# Altium footprint library MCUs.PcbLib: 25 footprints (part 2 of 2)
Each footprint in its own frame and in the unit in brackets; x right, y up, seen from the top. Pads: shape width x height; smd on the part's side, far side on the other; paste and mask are expansions set on the pad; w line width, h text height; cw(c..) or ccw(c..) is an arc to the next point about the centre after c.
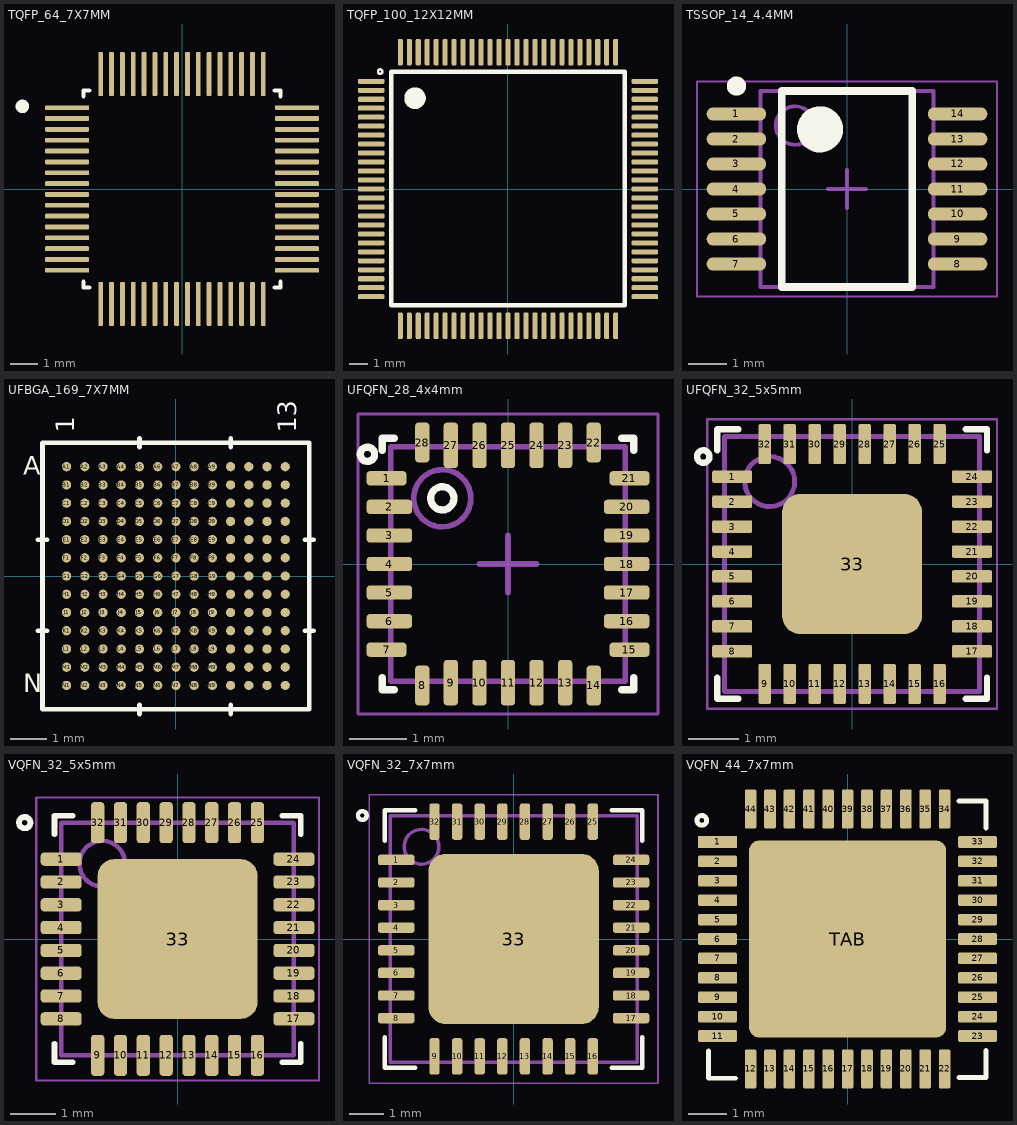
[diagram p1: the footprints below, top view; thin cyan lines are the x and y axes]

## TQFP_64_7X7MM [mil] "/20220212/J-E.Pachon"
pads (64):
  rrect50% 64x7 smd: 1(-167.39,118.11) 2(-167.39,102.36) 3(-167.39,86.61) 4(-167.39,70.87) 5(-167.39,55.12) 6(-167.39,39.37) 7(-167.39,23.62) 8(-167.39,7.87) 9(-167.39,-7.87) 10(-167.39,-23.62) 11(-167.39,-39.37) 12(-167.39,-55.12) 13(-167.39,-70.87) 14(-167.39,-86.61) 15(-167.39,-102.36) 16(-167.39,-118.11) 33(166.61,-118.11) 34(166.61,-102.36) 35(166.61,-86.61) 36(166.61,-70.87) 37(166.61,-55.12) 38(166.61,-39.37) 39(166.61,-23.62) 40(166.61,-7.87) 41(166.61,7.87) 42(166.61,23.62) 43(166.61,39.37) 44(166.61,55.12) 45(166.61,70.87) 46(166.61,86.61) 47(166.61,102.36) 48(166.61,118.11)
  rrect50% 7x64 smd: 17(-118.5,-167) 18(-102.76,-167) 19(-87.01,-167) 20(-71.26,-167) 21(-55.51,-167) 22(-39.76,-167) 23(-24.02,-167) 24(-8.27,-167) 25(7.48,-167) 26(23.23,-167) 27(38.98,-167) 28(54.72,-167) 29(70.47,-167) 30(86.22,-167) 31(101.97,-167) 32(117.72,-167) 49(117.72,167) 50(101.97,167) 51(86.22,167) 52(70.47,167) 53(54.72,167) 54(38.98,167) 55(23.23,167) 56(7.48,167) 57(-8.27,167) 58(-24.02,167) 59(-39.76,167) 60(-55.51,167) 61(-71.26,167) 62(-87.01,167) 63(-102.76,167) 64(-118.5,167)
Top Overlay:
  circle w9.84: c-232.28,120.08 r4.92
  lines w6: -143.39,-134.71 -143.39,-143 -135.1,-143 ; -143.39,134.71 -143.39,143 -135.1,143 ; 134.32,-143 142.61,-143 142.61,-134.71 ; 134.32,143 142.61,143 142.61,134.71
3D body "64TQFP_W7500P_WIZ.step": height 63.11, standoff 0, extent -177.4,-177.01 176.61,177.01

## TQFP_100_12X12MM [mil] "/20220523/F-A.Ospina"
pads (100):
  rrect50% 58x11 smd paste+0: 1(-300,236.22) 2(-300,216.54) 3(-300,196.85) 4(-300,177.17) 5(-300,157.48) 6(-300,137.8) 7(-300,118.11) 8(-300,98.43) 9(-300,78.74) 10(-300,59.06) 11(-300,39.37) 12(-300,19.69) 13(-300,0) 14(-300,-19.68) 15(-300,-39.37) 16(-300,-59.06) 17(-300,-78.74) 18(-300,-98.43) 19(-300,-118.11) 20(-300,-137.8) 21(-300,-157.48) 22(-300,-177.17) 23(-300,-196.85) 24(-300,-216.54) 25(-300,-236.22) 51(300,-236.22) 52(300,-216.54) 53(300,-196.85) 54(300,-177.17) 55(300,-157.48) 56(300,-137.8) 57(300,-118.11) 58(300,-98.43) 59(300,-78.74) 60(300,-59.06) 61(300,-39.37) 62(300,-19.68) 63(300,0) 64(300,19.68) 65(300,39.37) 66(300,59.06) 67(300,78.74) 68(300,98.43) 69(300,118.11) 70(300,137.8) 71(300,157.48) 72(300,177.17) 73(300,196.85) 74(300,216.54) 75(300,236.22)
  rrect50% 11x58 smd paste+0: 26(-236.22,-300) 27(-216.54,-300) 28(-196.85,-300) 29(-177.17,-300) 30(-157.48,-300) 31(-137.8,-300) 32(-118.11,-300) 33(-98.43,-300) 34(-78.74,-300) 35(-59.05,-300) 36(-39.37,-300) 37(-19.68,-300) 38(0,-300) 39(19.69,-300) 40(39.37,-300) 41(59.06,-300) 42(78.74,-300) 43(98.43,-300) 44(118.11,-300) 45(137.8,-300) 46(157.48,-300) 47(177.17,-300) 48(196.85,-300) 49(216.54,-300) 50(236.22,-300) 76(236.22,300) 77(216.54,300) 78(196.85,300) 79(177.17,300) 80(157.48,300) 81(137.8,300) 82(118.11,300) 83(98.43,300) 84(78.74,300) 85(59.06,300) 86(39.37,300) 87(19.69,300) 88(0,300) 89(-19.68,300) 90(-39.37,300) 91(-59.05,300) 92(-78.74,300) 93(-98.43,300) 94(-118.11,300) 95(-137.8,300) 96(-157.48,300) 97(-177.17,300) 98(-196.85,300) 99(-216.54,300) 100(-236.22,300)
Top Overlay:
  circle w23.62: c-203.94,199.21 r11.81
  circle w5: c-280.31,257.48 r4.92
  lines w10: -255.91,-255.12 255.91,-255.12 255.91,256.69 -255.91,256.69 -255.91,-255.12
3D body "TQFP100_14x14MC_MCH.step": height 47.09, standoff 0, extent -315,-315 315,315

## TSSOP_14_4.4MM [mm] "/ 20210511 / J-E.Pachon"
height 1.2
pads (14):
  oval 1.55x0.35 smd: 1(-2.875,1.95) 2(-2.875,1.3) 3(-2.875,0.65) 4(-2.875,0) 5(-2.875,-0.65) 6(-2.875,-1.3) 7(-2.875,-1.95) 8(2.875,-1.95) 9(2.875,-1.3) 10(2.875,-0.65) 11(2.875,0) 12(2.875,0.65) 13(2.875,1.3) 14(2.875,1.95)
Top Overlay:
  circle w0.25: c-2.875,2.675 r0.125
  circle w0.6: c-0.7,1.55 r0.3
  lines w0.2: -1.7,-2.55 -1.7,2.55 1.7,2.55 1.7,-2.55 -1.7,-2.55
Mechanical 1:
  circle w0.1: c-1.35,1.65 r0.5
  lines w0.1: -2.25,-2.55 -2.25,2.55 2.25,2.55 2.25,-2.55 -2.25,-2.55
Mechanical 15:
  lines w0.05: -3.9,-2.8 -3.9,2.8 3.9,2.8 3.9,-2.8 -3.9,-2.8
  lines w0.1: -0.5,0 0.5,0 ; 0,-0.5 0,0.5
3D body: height 1.2, standoff 0.05, extent -2.25,-2.55 2.25,2.55

## UFBGA_169_7X7MM [mil] "20220803 / E.Naranjo"
pads (169):
  round 10 smd paste+0 mask+0: A1(-118.11,118.11) A2(-98.43,118.11) A3(-78.74,118.11) A4(-59.06,118.11) A5(-39.37,118.11) A6(-19.68,118.11) A7(0,118.11) A8(19.68,118.11) A9(39.37,118.11) A10(59.06,118.11) A11(78.74,118.11) A12(98.43,118.11) A13(118.11,118.11) B1(-118.11,98.43) B2(-98.43,98.43) B3(-78.74,98.43) B4(-59.06,98.43) B5(-39.37,98.43) B6(-19.68,98.43) B7(0,98.43) B8(19.68,98.43) B9(39.37,98.43) B10(59.06,98.43) B11(78.74,98.43) B12(98.43,98.43) B13(118.11,98.43) C1(-118.11,78.74) C2(-98.43,78.74) C3(-78.74,78.74) C4(-59.06,78.74) C5(-39.37,78.74) C6(-19.68,78.74) C7(0,78.74) C8(19.68,78.74) C9(39.37,78.74) C10(59.06,78.74) C11(78.74,78.74) C12(98.43,78.74) C13(118.11,78.74) D1(-118.11,59.06) D2(-98.43,59.06) D3(-78.74,59.06) D4(-59.06,59.06) D5(-39.37,59.06) D6(-19.68,59.06) D7(0,59.06) D8(19.68,59.06) D9(39.37,59.06) D10(59.06,59.06) D11(78.74,59.06) D12(98.43,59.06) D13(118.11,59.06) E1(-118.11,39.37) E2(-98.43,39.37) E3(-78.74,39.37) E4(-59.06,39.37) E5(-39.37,39.37) E6(-19.68,39.37) E7(0,39.37) E8(19.68,39.37) E9(39.37,39.37) E10(59.06,39.37) E11(78.74,39.37) E12(98.43,39.37) E13(118.11,39.37) F1(-118.11,19.68) F2(-98.43,19.68) F3(-78.74,19.68) F4(-59.06,19.68) F5(-39.37,19.68) F6(-19.68,19.68) F7(0,19.68) F8(19.68,19.68) F9(39.37,19.68) F10(59.06,19.68) F11(78.74,19.68) F12(98.43,19.68) F13(118.11,19.68) G1(-118.11,0) G2(-98.43,0) G3(-78.74,0) G4(-59.06,0) G5(-39.37,0) G6(-19.68,0) G7(0,0) G8(19.68,0) G9(39.37,0) G10(59.06,0) G11(78.74,0) G12(98.43,0) G13(118.11,0) H1(-118.11,-19.68) H2(-98.43,-19.68) H3(-78.74,-19.68) H4(-59.06,-19.68) H5(-39.37,-19.68) H6(-19.68,-19.68) H7(0,-19.68) H8(19.68,-19.68) H9(39.37,-19.68) H10(59.06,-19.68) H11(78.74,-19.68) H12(98.43,-19.68) H13(118.11,-19.68) J1(-118.11,-39.37) J2(-98.43,-39.37) J3(-78.74,-39.37) J4(-59.06,-39.37) J5(-39.37,-39.37) J6(-19.68,-39.37) J7(0,-39.37) J8(19.68,-39.37) J9(39.37,-39.37) J10(59.06,-39.37) J11(78.74,-39.37) J12(98.43,-39.37) J13(118.11,-39.37) K1(-118.11,-59.06) K2(-98.43,-59.06) K3(-78.74,-59.06) K4(-59.06,-59.06) K5(-39.37,-59.06) K6(-19.68,-59.06) K7(0,-59.06) K8(19.68,-59.06) K9(39.37,-59.06) K10(59.06,-59.06) K11(78.74,-59.06) K12(98.43,-59.06) K13(118.11,-59.06) L1(-118.11,-78.74) L2(-98.43,-78.74) L3(-78.74,-78.74) L4(-59.06,-78.74) L5(-39.37,-78.74) L6(-19.68,-78.74) L7(0,-78.74) L8(19.68,-78.74) L9(39.37,-78.74) L10(59.06,-78.74) L11(78.74,-78.74) L12(98.43,-78.74) L13(118.11,-78.74) M1(-118.11,-98.43) M2(-98.43,-98.43) M3(-78.74,-98.43) M4(-59.06,-98.43) M5(-39.37,-98.43) M6(-19.68,-98.43) M7(0,-98.43) M8(19.68,-98.43) M9(39.37,-98.43) M10(59.06,-98.43) M11(78.74,-98.43) M12(98.43,-98.43) M13(118.11,-98.43) N1(-118.11,-118.11) N2(-98.43,-118.11) N3(-78.74,-118.11) N4(-59.06,-118.11) N5(-39.37,-118.11) N6(-19.68,-118.11) N7(0,-118.11) N8(19.68,-118.11) N9(39.37,-118.11) N10(59.06,-118.11) N11(78.74,-118.11) N12(98.43,-118.11) N13(118.11,-118.11)
Top Overlay:
  lines w5: -149,-59.06 -139,-59.06 ; -149,39.37 -139,39.37 ; -39.37,-149 -39.37,-139 ; -39.37,139 -39.37,149 ; 59.06,-149 59.06,-139 ; 59.06,139 59.06,149 ; 139,-59.06 149,-59.06 ; 139,39.37 149,39.37 ; -144,-144 -144,144 144,144 144,-144 -144,-144
  text "13" at 130,155 h20
  text "1" at -110,155 h20
  text "N" at -164.89,-125.57 h20
  text "A" at -164.89,109.47 h20
3D body "UFBGA169.step": height 24.09, standoff 0, extent -139.01,-139.01 139.02,139.02

## UFQFN_28_4x4mm [mm] "28-UFQFN / 20190221 / H-D.Garcia"
height 0.6
pads (28):
  rrect50% 0.7x0.25 smd: 1(-2.126,1.5) 7(-2.126,-1.5) 15(2.126,-1.5) 21(2.126,1.5)
  rrect50% 0.8x0.25 smd: 2(-2.076,1) 3(-2.076,0.5) 4(-2.076,0) 5(-2.076,-0.5) 6(-2.076,-1) 16(2.076,-1) 17(2.076,-0.5) 18(2.076,0) 19(2.076,0.5) 20(2.076,1)
  rrect50% 0.25x0.7 smd: 8(-1.5,-2.126) 14(1.5,-2.126) 22(1.5,2.126) 28(-1.5,2.126)
  rrect50% 0.25x0.8 smd: 9(-1,-2.076) 10(-0.5,-2.076) 11(0,-2.076) 12(0.5,-2.076) 13(1,-2.076) 23(1,2.076) 24(0.5,2.076) 25(0,2.076) 26(-0.5,2.076) 27(-1,2.076)
Top Overlay:
  circle w0.127: c-1.15,1.15 r0.203
  circle w0.127: c-2.46,1.92 r0.125
  lines w0.127: -2.2,-1.988 -2.2,-2.2 -1.988,-2.2 ; -2.2,1.988 -2.2,2.2 -1.988,2.2 ; 1.988,-2.2 2.2,-2.2 2.2,-1.988 ; 1.988,2.2 2.2,2.2 2.2,1.988
Mechanical 1:
  circle w0.1: c-1.15,1.15 r0.5
  lines w0.1: -2.05,-2.05 -2.05,2.05 2.05,2.05 2.05,-2.05 -2.05,-2.05
Mechanical 15:
  lines w0.05: -2.625,-2.625 2.625,-2.625 2.625,2.625 -2.625,2.625 -2.625,-2.625
  lines w0.1: -0.5,0 0.5,0 ; 0,-0.5 0,0.5
3D body: height 0.6, standoff 0.05, extent -2.05,-2.05 2.05,2.05

## UFQFN_32_5x5mm [mm] "32-UFQFN / 20190221 / H-D.Garcia"
height 0.6
pads (33):
  rrect25% 0.8x0.25 smd mask+0.051: 1(-2.4,1.75) 2(-2.4,1.25) 3(-2.4,0.75) 4(-2.4,0.25) 5(-2.4,-0.25) 6(-2.4,-0.75) 7(-2.4,-1.25) 8(-2.4,-1.75) 17(2.4,-1.75) 18(2.4,-1.25) 19(2.4,-0.75) 20(2.4,-0.25) 21(2.4,0.25) 22(2.4,0.75) 23(2.4,1.25) 24(2.4,1.75)
  rrect25% 0.25x0.8 smd mask+0.051: 9(-1.75,-2.4) 10(-1.25,-2.4) 11(-0.75,-2.4) 12(-0.25,-2.4) 13(0.25,-2.4) 14(0.75,-2.4) 15(1.25,-2.4) 16(1.75,-2.4) 25(1.75,2.4) 26(1.25,2.4) 27(0.75,2.4) 28(0.25,2.4) 29(-0.25,2.4) 30(-0.75,2.4) 31(-1.25,2.4) 32(-1.75,2.4)
  rrect25% 2.8x2.8 smd mask+0.051: 33(0,0)
Top Overlay:
  lines w0.127: -2.855,2.15 cw(c-2.98,2.15) -2.855,2.156 ; -2.7,-2.275 -2.7,-2.7 -2.275,-2.7 ; -2.7,2.275 -2.7,2.7 -2.275,2.7 ; 2.275,-2.7 2.7,-2.7 2.7,-2.275 ; 2.275,2.7 2.7,2.7 2.7,2.275
Mechanical 1:
  circle w0.1: c-1.65,1.65 r0.5
  lines w0.1: -2.55,-2.55 -2.55,2.55 2.55,2.55 2.55,-2.55 -2.55,-2.55
Mechanical 15:
  lines w0.05: -2.9,-2.9 -2.9,2.9 2.9,2.9 2.9,-2.9 -2.9,-2.9
  lines w0.1: -0.5,0 0.5,0 ; 0,-0.5 0,0.5
3D body: height 0.13, standoff 0, extent -2.65,1.63 -2.17,1.87
3D body: height 0.6, standoff 0, extent -2.55,-2.55 2.55,2.55
3D body: height 0.13, standoff 0, extent -1.87,2.15 -1.63,2.63
3D body: height 0.13, standoff 0, extent -1.37,2.15 -1.13,2.63
3D body: height 0.13, standoff 0, extent -0.87,2.15 -0.63,2.63
3D body: height 0.13, standoff 0, extent -0.37,2.15 -0.13,2.63
3D body: height 0.13, standoff 0, extent 0.13,2.15 0.37,2.63
3D body: height 0.13, standoff 0, extent 0.63,2.15 0.87,2.63
3D body: height 0.13, standoff 0, extent 1.13,2.15 1.37,2.63
3D body: height 0.13, standoff 0, extent 1.63,2.15 1.87,2.63
3D body: height 0.13, standoff 0, extent 2.15,1.63 2.63,1.87
3D body: height 0.13, standoff 0, extent 2.15,1.13 2.63,1.37
3D body: height 0.13, standoff 0, extent 2.15,0.63 2.63,0.87
3D body: height 0.13, standoff 0, extent 2.15,0.13 2.63,0.37
3D body: height 0.13, standoff 0, extent 2.15,-0.37 2.63,-0.13
3D body: height 0.13, standoff 0, extent 2.15,-0.87 2.63,-0.63
3D body: height 0.13, standoff 0, extent 2.15,-1.37 2.63,-1.13
3D body: height 0.13, standoff 0, extent 2.15,-1.87 2.63,-1.63
3D body: height 0.13, standoff 0, extent 1.63,-2.63 1.87,-2.15
3D body: height 0.13, standoff 0, extent 1.13,-2.63 1.37,-2.15
3D body: height 0.13, standoff 0, extent 0.63,-2.63 0.87,-2.15
3D body: height 0.13, standoff 0, extent 0.13,-2.63 0.37,-2.15
3D body: height 0.13, standoff 0, extent -0.37,-2.63 -0.13,-2.15
3D body: height 0.13, standoff 0, extent -0.87,-2.63 -0.63,-2.15
3D body: height 0.13, standoff 0, extent -1.37,-2.63 -1.13,-2.15
3D body: height 0.13, standoff 0, extent -1.87,-2.63 -1.63,-2.15
3D body: height 0.13, standoff 0, extent -2.65,-1.87 -2.17,-1.63
3D body: height 0.13, standoff 0, extent -2.65,-1.37 -2.17,-1.13
3D body: height 0.13, standoff 0, extent -2.65,-0.87 -2.17,-0.63
3D body: height 0.13, standoff 0, extent -2.65,-0.37 -2.17,-0.13
3D body: height 0.13, standoff 0, extent -2.65,0.13 -2.17,0.37
3D body: height 0.13, standoff 0, extent -2.65,0.63 -2.17,0.87
3D body: height 0.13, standoff 0, extent -2.65,1.13 -2.17,1.37

## VQFN_32_5x5mm [mm] "32-HVQFN  / 20191004 / M-X.Arias"
height 1.6
pads (33):
  rrect50% 0.9x0.29 smd: 1(-2.55,1.75) 2(-2.55,1.25) 3(-2.55,0.75) 4(-2.55,0.25) 5(-2.55,-0.25) 6(-2.55,-0.75) 7(-2.55,-1.25) 8(-2.55,-1.75) 17(2.55,-1.75) 18(2.55,-1.25) 19(2.55,-0.75) 20(2.55,-0.25) 21(2.55,0.25) 22(2.55,0.75) 23(2.55,1.25) 24(2.55,1.75)
  rrect50% 0.29x0.9 smd: 9(-1.75,-2.55) 10(-1.25,-2.55) 11(-0.75,-2.55) 12(-0.25,-2.55) 13(0.25,-2.55) 14(0.75,-2.55) 15(1.25,-2.55) 16(1.75,-2.55) 25(1.75,2.55) 26(1.25,2.55) 27(0.75,2.55) 28(0.25,2.55) 29(-0.25,2.55) 30(-0.75,2.55) 31(-1.25,2.55) 32(-1.75,2.55)
  rrect20% 3.5x3.5 smd: 33(0,0)
Top Overlay:
  circle w0.127: c-3.35,2.55 r0.125
  lines w0.127: -2.7,-2.295 -2.7,-2.7 -2.295,-2.7 ; -2.7,2.295 -2.7,2.7 -2.295,2.7 ; 2.295,-2.7 2.7,-2.7 2.7,-2.295 ; 2.295,2.7 2.7,2.7 2.7,2.295
Top Paste:
  rectangle: -0.25,-0.25 0.25,0.25
  rectangle: 0.55,-0.25 1.05,0.25
  rectangle: -0.25,-1.05 0.25,-0.55
  rectangle: 0.55,-1.05 1.05,-0.55
  rectangle: -1.05,-1.05 -0.55,-0.55
  rectangle: -1.05,-0.25 -0.55,0.25
  rectangle: -1.05,0.55 -0.55,1.05
  rectangle: -0.25,0.55 0.25,1.05
  rectangle: 0.55,0.55 1.05,1.05
Mechanical 1:
  circle w0.1: c-1.65,1.65 r0.5
  lines w0.1: -2.55,-2.55 2.55,-2.55 2.55,2.55 -2.55,2.55 -2.55,-2.55
Mechanical 15:
  lines w0.05: -3.1,-3.1 -3.1,3.1 3.1,3.1 3.1,-3.1 -3.1,-3.1
  lines w0.1: -0.5,0 0.5,0 ; 0,-0.5 0,0.5
3D body: height 0.85, standoff 0, extent -2.55,-2.55 2.55,2.55

## VQFN_32_7x7mm [mm] "32-HVQFN  / 20191011 / M-X.Arias"
height 1.6
pads (33):
  rrect50% 1.05x0.3 smd: 1(-3.375,2.275) 2(-3.375,1.625) 3(-3.375,0.975) 4(-3.375,0.325) 5(-3.375,-0.325) 6(-3.375,-0.975) 7(-3.375,-1.625) 8(-3.375,-2.275) 17(3.375,-2.275) 18(3.375,-1.625) 19(3.375,-0.975) 20(3.375,-0.325) 21(3.375,0.325) 22(3.375,0.975) 23(3.375,1.625) 24(3.375,2.275)
  rrect50% 0.3x1.05 smd: 9(-2.275,-3.375) 10(-1.625,-3.375) 11(-0.975,-3.375) 12(-0.325,-3.375) 13(0.325,-3.375) 14(0.975,-3.375) 15(1.625,-3.375) 16(2.275,-3.375) 25(2.275,3.375) 26(1.625,3.375) 27(0.975,3.375) 28(0.325,3.375) 29(-0.325,3.375) 30(-0.975,3.375) 31(-1.625,3.375) 32(-2.275,3.375)
  rrect20% 4.9x4.9 smd: 33(0,0)
Top Overlay:
  circle w0.127: c-4.35,3.55 r0.125
  lines w0.127: -3.7,-2.825 -3.7,-3.7 -2.825,-3.7 ; -3.7,2.825 -3.7,3.7 -2.825,3.7 ; 2.825,-3.7 3.7,-3.7 3.7,-2.825 ; 2.825,3.7 3.7,3.7 3.7,2.825
Top Paste:
  rectangle: -0.066,0.046 0.434,0.546
  rectangle: 0.734,0.046 1.234,0.546
  rectangle: -0.066,-0.754 0.434,-0.254
  rectangle: 0.734,-0.754 1.234,-0.254
  rectangle: -0.866,-0.754 -0.366,-0.254
  rectangle: -0.866,0.046 -0.366,0.546
  rectangle: -0.866,0.846 -0.366,1.346
  rectangle: -0.066,0.846 0.434,1.346
  rectangle: 0.734,0.846 1.234,1.346
Mechanical 1:
  circle w0.1: c-2.65,2.65 r0.5
  lines w0.1: -3.55,-3.55 3.55,-3.55 3.55,3.55 -3.55,3.55 -3.55,-3.55
Mechanical 15:
  lines w0.05: -4.15,-4.15 4.15,-4.15 4.15,4.15 -4.15,4.15 -4.15,-4.15
  lines w0.1: -0.5,0 0.5,0 ; 0,-0.5 0,0.5
3D body: height 1, standoff 0, extent -3.55,-3.55 3.55,3.55

## VQFN_44_7x7mm [mm] "44-VQFN  / 20230220 / N-A.Potosi"
height 1.6
pads (45):
  rect 1x0.3 smd: 1(-3.35,2.5)
  rrect25% 1x0.3 smd: 2(-3.35,2) 3(-3.35,1.5) 4(-3.35,1) 5(-3.35,0.5) 6(-3.35,0) 7(-3.35,-0.5) 8(-3.35,-1) 9(-3.35,-1.5) 10(-3.35,-2) 11(-3.35,-2.5) 23(3.35,-2.5) 24(3.35,-2) 25(3.35,-1.5) 26(3.35,-1) 27(3.35,-0.5) 28(3.35,0) 29(3.35,0.5) 30(3.35,1) 31(3.35,1.5) 32(3.35,2) 33(3.35,2.5)
  rrect25% 0.3x1 smd: 12(-2.5,-3.35) 13(-2,-3.35) 14(-1.5,-3.35) 15(-1,-3.35) 16(-0.5,-3.35) 17(0,-3.35) 18(0.5,-3.35) 19(1,-3.35) 20(1.5,-3.35) 21(2,-3.35) 22(2.5,-3.35) 34(2.5,3.35) 35(2,3.35) 36(1.5,3.35) 37(1,3.35) 38(0.5,3.35) 39(0,3.35) 40(-0.5,3.35) 41(-1,3.35) 42(-1.5,3.35) 43(-2,3.35) 44(-2.5,3.35)
  rrect10% 5.08x5.08 smd: TAB(0,0)
Top Overlay:
  circle w0.127: c-3.756,3.056 r0.125
  lines w0.127: -3.588,-2.889 -3.588,-3.589 -2.888,-3.589 ; 2.864,-3.573 3.564,-3.573 3.564,-2.873 ; 2.865,3.557 3.565,3.557 3.565,2.857
3D body "44PW_ATM.step": height 1.65, standoff 0, extent -3.546,-3.558 3.554,3.542